# Altium footprint library 二极管三极管.PcbLib: 29 footprints (part 1 of 2)
Each footprint in its own frame and in the unit in brackets; x right, y up, seen from the top. Pads: shape width x height; smd on the part's side, far side on the other; paste and mask are expansions set on the pad; w line width, h text height; cw(c..) or ccw(c..) is an arc to the next point about the centre after c.
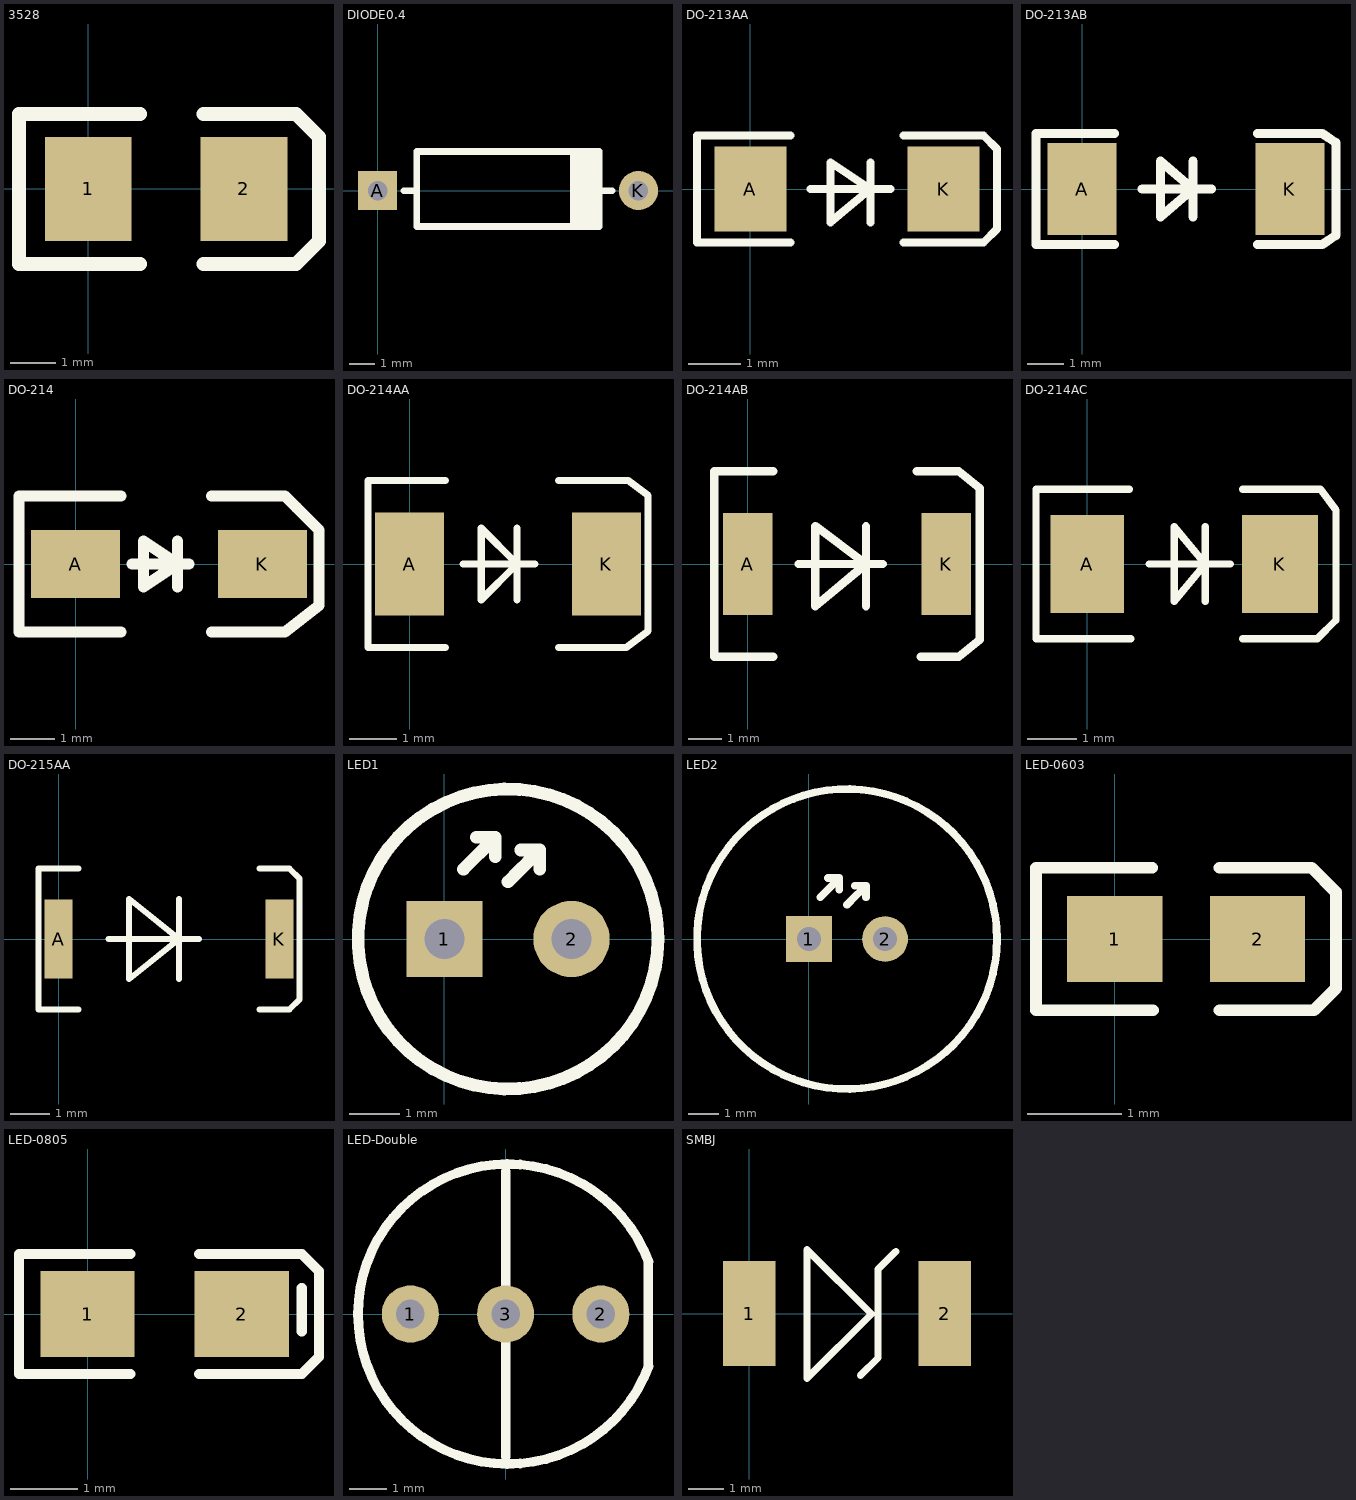
[diagram p0: the footprints below, top view; thin cyan lines are the x and y axes]

## 3528 [mil]
pads (2):
  rect 75x90 smd: 1(0,0) 2(135,0)
Top Overlay:
  lines w12: 45,-65 -60,-65 -60,65 45,65 ; 100,-65 180,-65 200,-45 200,45 180,65 100,65

## DIODE0.4 [mil]
pads (2):
  rect 60x60 hole 30: A(0,0)
  round 60 hole 30: K(400,0)
Top Overlay:
  lines w10: 40,0 60,0 ; 300,-55 300,60 ; 310,-55 310,60 ; 320,-55 320,60 ; 330,-55 330,60 ; 340,0 360,0 ; 60,0 60,-55 340,-55 340,60 60,60 60,0

## DO-213AA [mm]
pads (2):
  rect 1.37x1.62 smd: A(0,0) K(3.683,0)
Top Overlay:
  lines w0.152: 0.762,-1.016 -1.016,-1.016 -1.016,1.016 0.762,1.016 ; 1.143,0 2.667,0 ; 2.286,-0.635 2.286,0.508 ; 2.921,-1.016 4.445,-1.016 4.699,-0.762 4.699,0.762 4.445,1.016 2.921,1.016 ; 1.524,-0.635 1.524,0.508 2.286,0 1.524,-0.635

## DO-213AB [mm]
pads (2):
  rect 1.9x2.54 smd: A(0,0) K(5.715,0)
Top Overlay:
  lines w0.254: 0.889,-1.524 -1.27,-1.524 -1.27,1.524 0.889,1.524 ; 1.651,0 3.556,0 ; 3.048,-0.762 3.048,0.762 ; 4.826,-1.524 6.604,-1.524 6.985,-1.27 6.985,1.27 6.604,1.524 6.477,1.524 4.826,1.524 ; 2.159,-0.762 2.159,0.762 3.048,0 2.159,-0.762

## DO-214 [mm]
pads (2):
  rect 2x1.53 smd: A(0,0) K(4.191,0)
Top Overlay:
  lines w0.254: 1.016,-1.524 -1.27,-1.524 -1.27,1.524 1.016,1.524 ; 1.27,0 2.54,0 ; 2.286,-0.508 2.286,0.508 ; 3.048,-1.524 4.699,-1.524 5.461,-0.931 5.461,0.762 4.953,1.27 4.699,1.524 3.048,1.524 ; 1.524,-0.508 1.524,0.508 2.286,0 1.524,-0.508

## DO-214AA [mm]
pads (2):
  rect 1.47x2.2 smd: A(0,0) K(4.191,0)
Top Overlay:
  lines w0.152: 0.762,-1.778 -0.889,-1.778 -0.889,1.778 0.762,1.778 ; 1.143,0 2.667,0 ; 2.286,-0.762 2.286,0.762 ; 3.175,-1.778 4.614,-1.778 5.08,-1.429 5.08,1.46 4.657,1.778 3.175,1.778 ; 1.524,0 1.524,0.762 ; 1.524,0 1.524,0.762 ; 1.524,0 1.524,-0.762 2.286,0 1.524,0.762

## DO-214AB [mm]
pads (2):
  rect 1.49x3.07 smd: A(0,0) K(5.969,0)
Top Overlay:
  lines w0.254: 0.762,-2.794 -1.016,-2.794 -1.016,2.794 0.762,2.794 ; 1.524,0 4.064,0 ; 3.556,-1.27 3.556,1.143 ; 5.08,2.794 6.35,2.794 6.985,2.286 6.985,-2.286 6.35,-2.794 5.207,-2.794 ; 2.032,-1.27 2.032,1.143 3.556,0 2.032,-1.27

## DO-214AC [mm]
pads (2):
  rect 1.5x2 smd: A(0,0)
  rect 1.55x2 smd: K(3.937,0)
Top Overlay:
  lines w0.152: 0.864,1.524 -1.041,1.524 -1.041,-1.143 -1.041,-1.524 0.889,-1.524 ; 1.27,0 2.921,0 ; 2.413,-0.762 2.413,0.762 ; 3.175,-1.524 4.699,-1.524 5.08,-1.143 5.08,1.101 4.763,1.524 3.175,1.524 ; 1.778,-0.762 1.778,0.762 2.413,0 1.778,-0.762

## DO-215AA [mm]
pads (2):
  rect 0.7x2 smd: A(0,0) K(5.588,0)
Top Overlay:
  lines w0.152: 0.508,-1.778 -0.508,-1.778 -0.508,1.778 0.508,1.778 ; 1.27,0 3.556,0 ; 3.048,-1.016 3.048,1.016 ; 5.08,-1.778 5.842,-1.778 6.096,-1.524 6.096,-1.27 6.096,-1.143 6.096,1.524 5.842,1.778 5.08,1.778 ; 1.778,-1.016 1.778,1.016 3.048,0 1.778,-1.016

## LED1 [mil]
pads (2):
  rect 60x60 hole 31.5: 1(0,0)
  round 60 hole 31.5: 2(100,0)
Top Overlay:
  circle w10: c50,0 r118.11
  lines w10: 25,80 40,80 ; 38.57,78.57 15,55 40,80 ; 40,65 40,80 ; 50,45 61.07,56.07 ; 55,50 75,70 ; 75,55 75,70 ; 75,70 60,70 75,70

## LED2 [mil]
pads (2):
  rect 60x60 hole 31.5: 1(0,0)
  round 60 hole 31.5: 2(100,0)
Top Overlay:
  circle w10: c50,0 r196.85
  lines w10: 25,80 40,80 ; 38.57,78.57 15,55 40,80 ; 40,65 40,80 ; 50,45 61.07,56.07 ; 55,50 75,70 ; 75,55 75,70 ; 75,70 60,70 75,70

## LED-0603 [mil]
pads (2):
  rect 40x36.22 smd: 1(0,0) 2(60,0)
Top Overlay:
  lines w5: 15.75,29.92 -33.07,29.92 -33.07,-29.92 16.14,-29.92 ; 44.03,-29.92 83.66,-29.92 92.91,-20.67 92.91,19.68 82.68,29.92 ; 44.03,29.92 82.68,29.92 ; 82.68,29.92 82.68,29.92

## LED-0805 [mil]
pads (2):
  rect 55x50 smd: 1(0,0) 2(90,0)
Top Overlay:
  lines w6: -24.61,35 25,35 ; -20,35 -40,35 -40,-35 25,-35 ; 65,-35 114.61,-35 ; 65,35 114.61,35 ; 115,-35 125,-35 135,-25 135,25 125,35 115,35 ; 125,-10 125,15

## LED-Double [mil]
pads (3):
  round 60 hole 30: 1(-100,0) 2(100,0) 3(0,0)
Top Overlay:
  lines w10: 0,-150 0,40 0,150 ; 150,-55 150,55 ; 150.07,-55.03 cw(c2.52,0) 150.07,55.03

## MB6S [mil]

## SMBJ [mm]
pads (2):
  rect 1.5x3 smd: 1(0,0) 2(5.588,0)
Top Overlay:
  lines w0.203: 3.175,-1.778 3.683,-1.27 3.683,1.27 4.191,1.778 ; 1.651,-1.854 1.651,1.829 3.492,-0.013 1.651,-1.854